# Altium schematic symbol library BLUETOOTH_MODULES.SchLib: 1 symbol
Pins are listed as number, name and electrical type; pins without a type are passive.

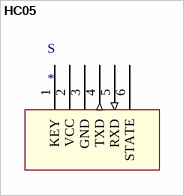
[diagram p0: symbol HC05]

## HC05
designator S
footprint 6pin connector
pins: 1 KEY, 2 VCC (power), 3 GND (power), 4 TXD (out), 5 RXD (in), 6 STATE